# Altium footprint library IRF840.PcbLib: 1 footprints
Each footprint in its own frame and in the unit in brackets; x right, y up, seen from the top. Pads: shape width x height; smd on the part's side, far side on the other; paste and mask are expansions set on the pad; w line width, h text height; cw(c..) or ccw(c..) is an arc to the next point about the centre after c.
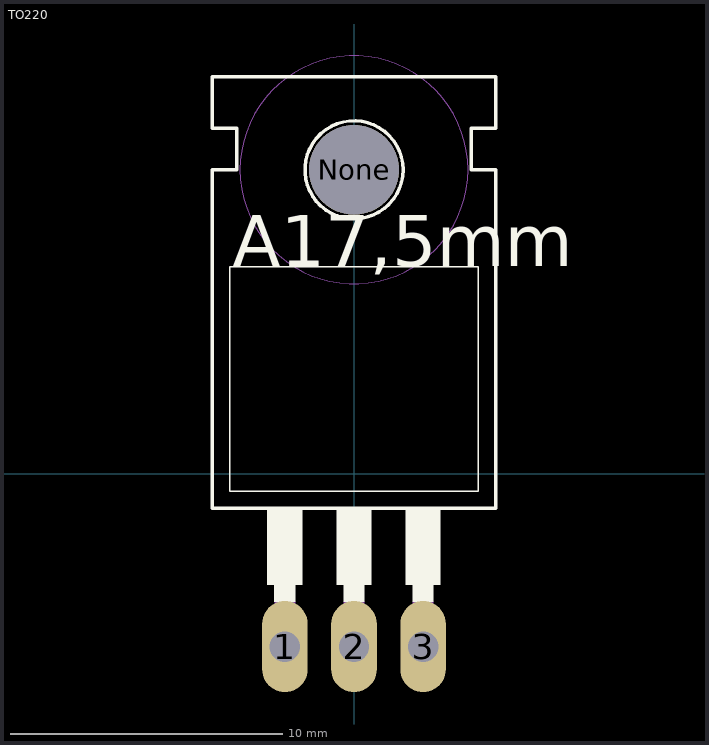
[diagram p0: the footprint, top view; thin cyan lines are the x and y axes]

## TO220 [mil]
pads (4):
  oval 66x132 hole 44: 1(-100,-250) 2(0,-250) 3(100,-250)
  round 130 hole 130 unplated: None(0,440)
Top Overlay:
  circle w5: c0,440 r71
  region: 75.09,-50 125,-50 125,-160.19 75.09,-160.19
  region: -25.03,-50 25,-50 25,-160.19 -25.03,-160.19
  region: -125.2,-50 -75,-50 -75,-160.26 -125.2,-160.26
  region: -115.23,-160 -85,-160 -85,-185.36 -115.23,-185.36
  region: -15.01,-160 15,-160 15,-185.13 -15.01,-185.13
  region: 85.15,-160 115,-160 115,-185.33 85.15,-185.33
  lines w2: -180,-25 -180,300 180,300 180,-25 -180,-25
  lines w5: -205,-50 -205,440 -170,440 -170,500 -205,500 -205,575 205,575 205,500 170,500 170,440 205,440 205,-50 -205,-50
  text "A17,5mm" at -175.15,300.42 h73.82
Mechanical 1:
  circle w0: c0,440 r165
  circle w0: c0,440 r165
  region: 85.14,-185 115,-185 115,-260.44 85.14,-260.44
  region: -15.01,-185 15,-185 15,-260.25 -15.01,-260.25
  region: -115.02,-185 -85,-185 -85,-260.05 -115.02,-260.05
  text "3" at 75.08,-9.84 h73.82
  text "2" at -25.01,-9.84 h73.82
  text "1" at -125.06,-9.84 h73.82